# Altium schematic symbol library MAX4737EUD+.SchLib: 1 symbol
Pins are listed as number, name and electrical type; pins without a type are passive.

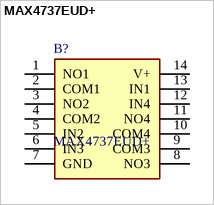
[diagram p0: symbol MAX4737EUD+]

## MAX4737EUD+
designator B?
Analog Switch ICs 4.5Ohm Quad SPST Analog Switch; Manufacturer_Name: Analog Devices; Geometry.Height: 1.1mm; Mouser Part Number: 700-MAX4737EUD; Mouser Price/Stock: https://www.mouser.co.uk/ProductDetail/Analog-Devices-Maxim-Integrated/MAX4737EUD%2b?qs=LHmEVA8xxfbKICdohzHcgA%3D%3D; Manufacturer_Part_Number: MAX4737EUD+; Datasheet Link: *
footprint SOP65P640X110-14N
pins: 1 NO1, 2 COM1, 3 NO2, 4 COM2, 5 IN2, 6 IN3, 7 GND, 8 NO3, 9 COM3, 10 COM4, 11 NO4, 12 IN4, 13 IN1, 14 V+